# EAGLE library part CONN_09 (library vinorodrigues-custom-eagle)
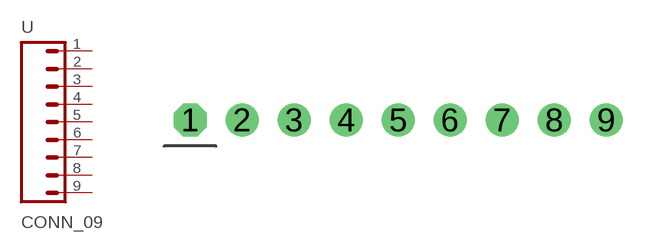
[diagram p13: symbol with the pads of 1X9-NARROW; footprint 1X9-NARROW]

Designator prefix -

## CONN_09  [1X9-NARROW]
1  1  pas
2  2  pas
3  3  pas
4  4  pas
5  5  pas
6  6  pas
7  7  pas
8  8  pas
9  9  pas

## Footprint 1X9-NARROW (pad centres in mm)
drill 1.016 pad 1.626 octagon: 1 0,0
drill 1.016 pad 1.626: 2 2.54,0; 3 5.08,0; 4 7.62,0; 5 10.16,0; 6 12.7,0; 7 15.24,0; 8 17.78,0; 9 20.32,0